# Altium schematic symbol library MAX1771CSA.SchLib: 1 symbol
Pins are listed as number, name and electrical type; pins without a type are passive.

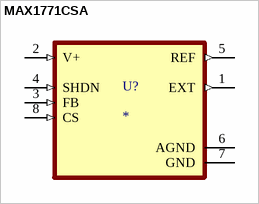
[diagram p0: symbol MAX1771CSA]

## MAX1771CSA
designator U?
Boost, Buck-Boost Regulator Positive Output Step-Up, Step-Up/Step-Down - DC-DC Controller IC 8-SOIC; MP: MAX1771CSA; MF: Maxim Integrated; Price: None; Purchase-URL: https://pricing.snapeda.com/search/part/MAX1771CSA/?ref=eda; Package: SOIC-8 Maxim; Check_prices: https://www.snapeda.com/parts/MAX1771CSA/Maxim+Integrated/view-part/?ref=eda; SnapEDA_Link: https://www.snapeda.com/parts/MAX1771CSA/Maxim+Integrated/view-part/?ref=snap; Availability: In Stock; Value: *
footprint SOIC127P600X175-8N (Footprint not found)
pins: 1 EXT (out), 2 V+ (in), 3 FB (in), 4 SHDN (in), 5 REF (out), 6 AGND (power), 7 GND (power), 8 CS (in)